# Altium footprint library SCA1020.PcbLib: 1 footprints
Each footprint in its own frame and in the unit in brackets; x right, y up, seen from the top. Pads: shape width x height; smd on the part's side, far side on the other; paste and mask are expansions set on the pad; w line width, h text height; cw(c..) or ccw(c..) is an arc to the next point about the centre after c.
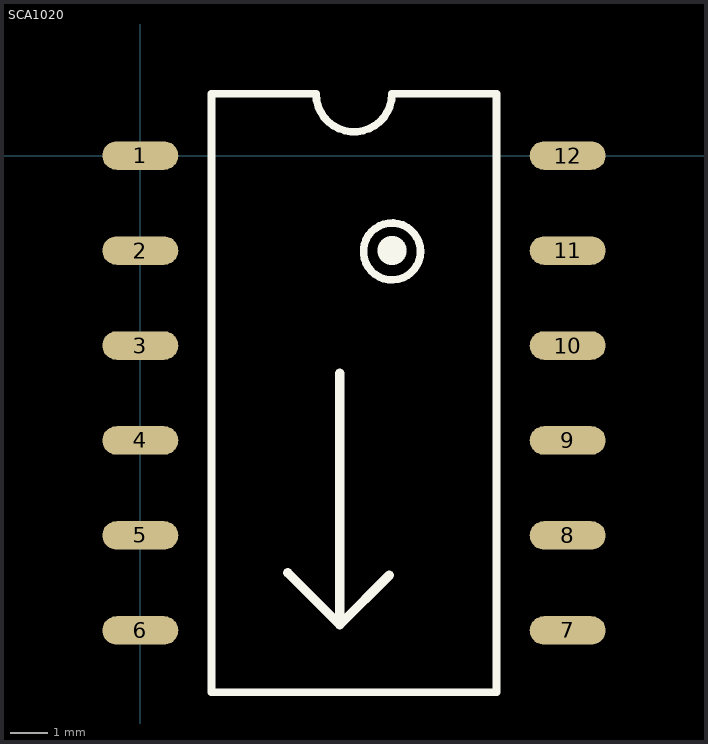
[diagram p0: the footprint, top view; thin cyan lines are the x and y axes]

## SCA1020 [mil]
height 215
pads (12):
  oval 80x30 smd: 1(0,0) 2(0,-100) 3(0,-200) 4(0,-300) 5(0,-400) 6(0,-500) 7(450,-500) 8(450,-400) 9(450,-300) 10(450,-200) 11(450,-100) 12(450,0)
TopOverlay:
  circle w30: c265.14,-100.05 r0.39
  circle w8: c265,-101 r30
  lines w8: 75,-565 75,65 185,65 ccw(c225,65) 265,65 375,65 375,-565 75,-565
  lines w10: 155.19,-439.19 210,-494 ; 210,-229 210,-494 ; 262.19,-441.81 210,-494
  text "." at 100,40 h75
3D body: height 205.6, standoff 0.6, extent 2.61,-557.73 447.61,56.27